# Altium schematic symbol library ThermocoupleConnector.SchLib: 1 symbol
Pins are listed as number, name and electrical type; pins without a type are passive.

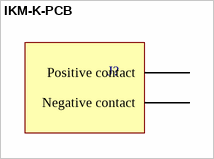
[diagram p0: symbol IKM-K-PCB]

## IKM-K-PCB
designator J?
Miniature Thermocouple PCB Mounting Socket; Manufacturer: Lab Facility; Supplier 1: Farnell; ComponentLink1Description: Datasheet; ComponentLink1URL: http://www.farnell.com/datasheets/2842097.pdf; ComponentLink2Description: 3D animaton; ComponentLink2URL: https://www.youtube.com/watch?v=aBtMT_bWiLk
pins: 0 Positive contact, 1 Negative contact